# Altium footprint library NEW.PcbLib: 110 footprints (part 4 of 7)
Each footprint in its own frame and in the unit in brackets; x right, y up, seen from the top. Pads: shape width x height; smd on the part's side, far side on the other; paste and mask are expansions set on the pad; w line width, h text height; cw(c..) or ccw(c..) is an arc to the next point about the centre after c.
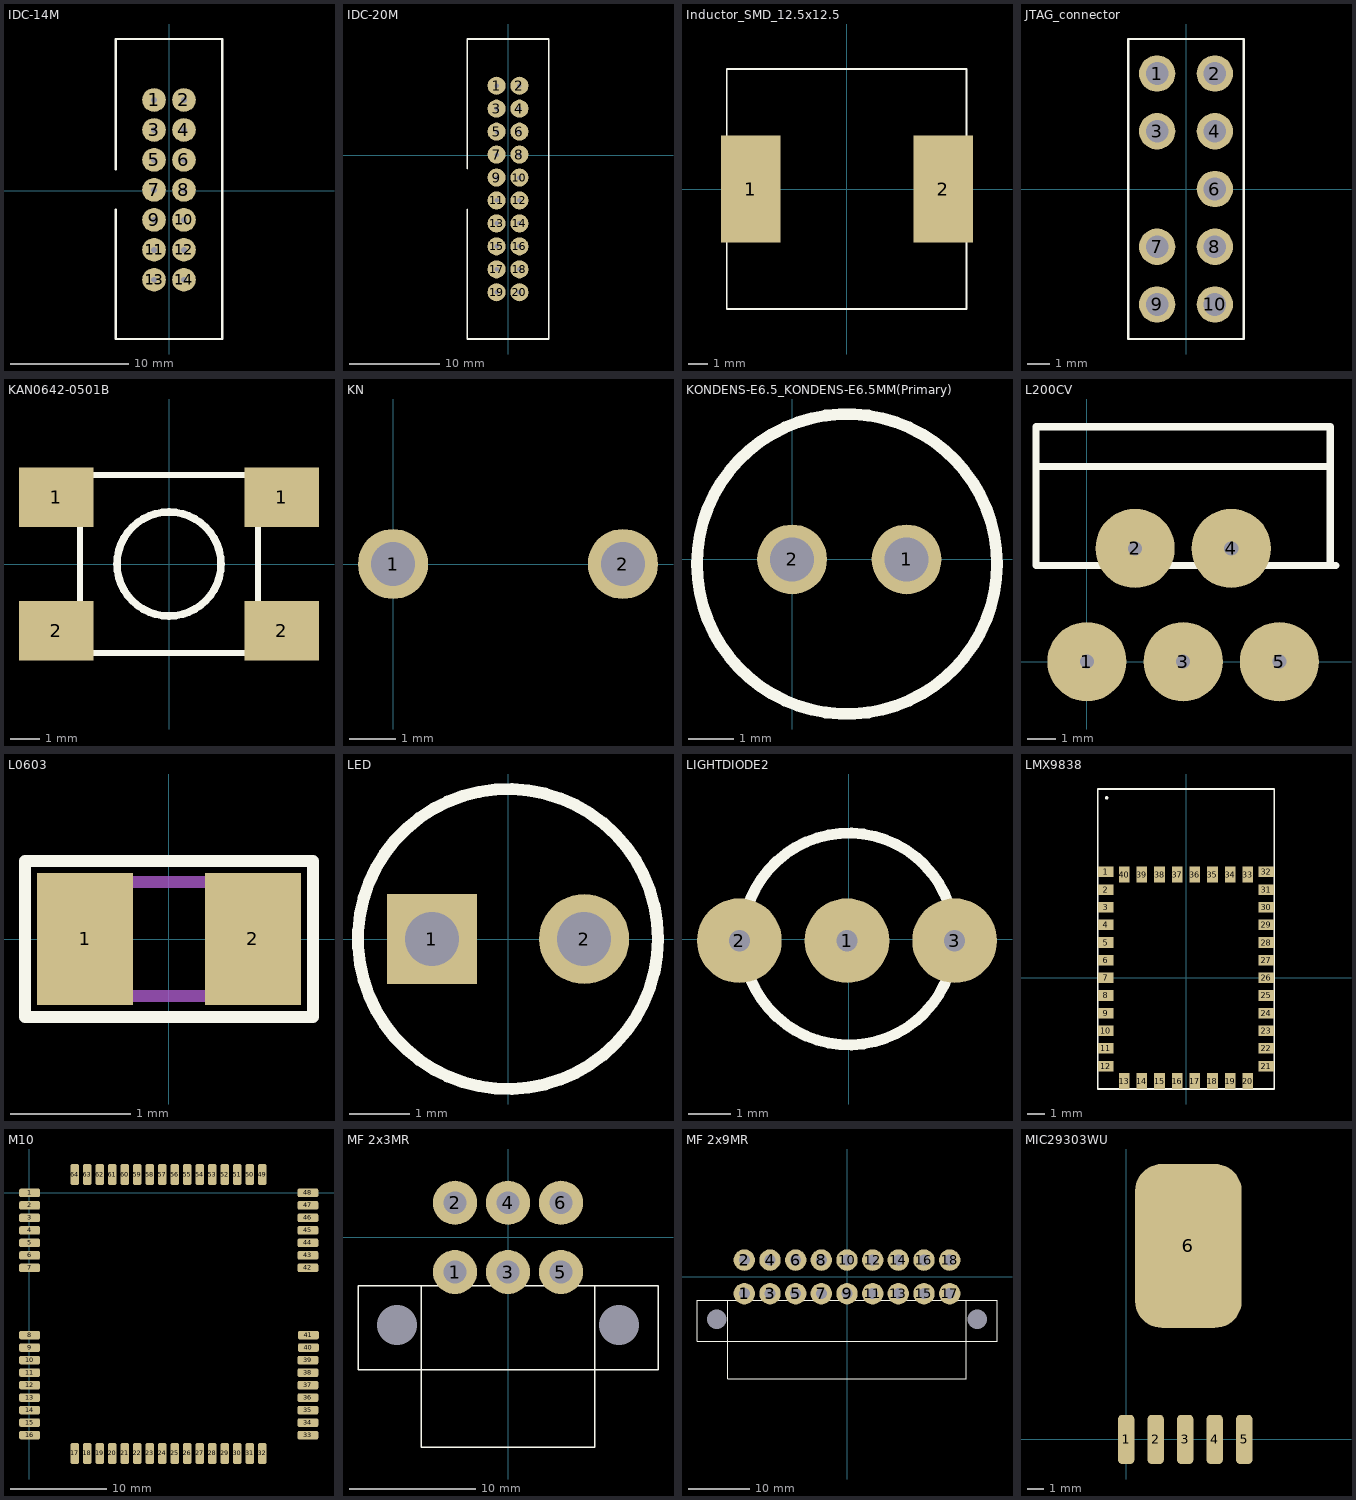
[diagram p3: the footprints below, top view; thin cyan lines are the x and y axes]

## IDC-14M [mm]
height 8
pads (14):
  round 2 hole 0.5 unplated: 1(-1.27,7.68) 2(1.27,7.68) 3(-1.27,5.14) 4(1.27,5.14) 5(-1.27,2.6) 6(1.27,2.6) 7(-1.27,0.06) 8(1.27,0.06) 9(-1.27,-2.48) 10(1.27,-2.48)
  round 2 hole 0.5: 11(-1.27,-5.02) 12(1.27,-5.02) 13(-1.27,-7.56) 14(1.27,-7.56)
Top Overlay:
  lines w0.2: -4.5,-1.6 -4.5,-12.58 4.5,-12.58 4.5,12.85 -4.5,12.85 -4.5,1.8

## IDC-20M [mm]
height 8
pads (20):
  round 2 hole 0.5 unplated: 1(-1.27,7.68) 2(1.27,7.68) 3(-1.27,5.14) 4(1.27,5.14) 5(-1.27,2.6) 6(1.27,2.6) 7(-1.27,0.06) 8(1.27,0.06) 9(-1.27,-2.48) 10(1.27,-2.48)
  round 2 hole 0.5: 11(-1.27,-5.02) 12(1.27,-5.02) 13(-1.27,-7.56) 14(1.27,-7.56) 15(-1.27,-10.1) 16(1.27,-10.1) 17(-1.27,-12.64) 18(1.27,-12.64) 19(-1.27,-15.18) 20(1.27,-15.18)
Top Overlay:
  lines w0.2: -4.5,-6.02 -4.5,-20.35 4.475,-20.35 4.5,-20.325 4.5,12.85 -4.5,12.85 -4.5,-1.48

## Inductor_SMD_12.5x12.5 [mm]
height 8.5
pads (2):
  rect 3.1x5.6 smd: 1(-5,0) 2(5.05,0)
Top Overlay:
  lines w0.1: -6.25,-6.25 6.25,-6.25 6.25,6.25 -6.25,6.25 -6.25,-6.25

## JTAG_connector [mm]
pads (9):
  round 1.6 hole 1 unplated: 1(-1.27,5.08) 2(1.27,5.08) 3(-1.27,2.54) 4(1.27,2.54) 6(1.27,0) 7(-1.27,-2.54) 8(1.27,-2.54) 9(-1.27,-5.08) 10(1.27,-5.08)
Top Overlay:
  lines w0.1: -2.54,-6.6 2.54,-6.6 2.54,6.6 -2.54,6.6 -2.54,-6.6

## KAN0642-0501B [mm]
height 5
pads (4):
  rect 2.5x2 smd: 1(-3.8,2.25) 1(3.8,2.25) 2(-3.8,-2.25) 2(3.8,-2.25)
Top Overlay:
  circle w0.254: c0,0 r1.75
  lines w0.2: -3,-3 3,-3 3,3 -3,3 -3,-3

## KN [mil]
pads (2):
  round 60 hole 38: 1(0,0) 2(196.85,0)

## KONDENS-E6.5_KONDENS-E6.5MM(Primary) [mil]
pads (2):
  round 60 hole 38: 1(98.43,0) 2(0,0)
Top Overlay:
  circle w10: c47.24,-3.94 r128.96

## L200CV [mm]
pads (5):
  round 2.8 hole 0.5: 1(0,0) 2(1.7,4) 3(3.4,0) 4(5.1,4) 5(6.8,0)
Top Overlay:
  lines w0.254: -1.8,6.9 8.6,6.9 ; 8.6,3.4 8.6,8.3 -1.8,8.3 -1.8,3.4 8.8,3.4

## L0603 [mm] "SMD_inductor 0603"
height 1.02
pads (2):
  rect 0.8x1.1 smd: 1(-0.7,0) 2(0.7,0)
Top Overlay:
  lines w0.1: 1.2,0.625 1.2,-0.65 -1.2,-0.65 -1.2,0.65 1.2,0.65
Mechanical 13:
  lines w0.1: -0.875,-0.475 0.875,-0.475 0.875,0.475 -0.875,0.475 -0.875,-0.475
3D body: height 1.3, standoff 0, extent -0.875,-0.475 0.875,0.475

## LED [mm] "LED d 5mm"
height 8
pads (2):
  rect 1.5x1.5 hole 0.9: 1(-1.27,0)
  round 1.5 hole 0.9: 2(1.27,0)
Top Overlay:
  circle w0.2: c0,0 r2.5

## LIGHTDIODE2 [mm]
pads (3):
  round 2 hole 0.5: 1(-0.04,-0.04) 2(-2.58,-0.04) 3(2.5,-0.04)
Top Overlay:
  circle w0.254: c0,0 r2.5

## LMX9838 [mm] "Bluetooth_OEM_module"
height 2
pads (41):
  rect 0.9x0.6 smd: 1(-4.55,6) 2(-4.55,5) 3(-4.55,4) 4(-4.55,3) 5(-4.55,2) 6(-4.55,1) 7(-4.55,0) 8(-4.55,-1) 9(-4.55,-2) 10(-4.55,-3) 11(-4.55,-4) 12(-4.55,-5) 21(4.55,-5) 22(4.55,-4) 23(4.55,-3) 24(4.55,-2) 25(4.55,-1) 26(4.55,0) 27(4.55,1) 28(4.55,2) 29(4.55,3) 30(4.55,4) 31(4.55,5) 32(4.55,6)
  round 0.2 on Top Overlay: 1(-4.5,10.2)
  rect 0.6x0.9 smd: 13(-3.5,-5.85) 14(-2.5,-5.85) 15(-1.5,-5.85) 16(-0.5,-5.85) 17(0.5,-5.85) 18(1.5,-5.85) 19(2.5,-5.85) 20(3.5,-5.85) 33(3.5,5.85) 34(2.5,5.85) 35(1.5,5.85) 36(0.5,5.85) 37(-0.5,5.85) 38(-1.5,5.85) 39(-2.5,5.85) 40(-3.5,5.85)
Top Overlay:
  lines w0.1: -5,-6.3 5,-6.3 5,10.7 -5,10.7 -5,-6.3

## M10 [mm]
pads (64):
  rrect50% 2.2x0.9 smd: 1(0.05,0) 2(0.05,-1.3) 3(0.05,-2.6) 4(0.05,-3.9) 5(0.05,-5.2) 6(0.05,-6.5) 7(0.05,-7.8) 8(0.05,-14.8) 9(0.05,-16.1) 10(0.05,-17.4) 11(0.05,-18.7) 12(0.05,-20) 13(0.05,-21.3) 14(0.05,-22.6) 15(0.05,-23.9) 16(0.05,-25.2) 33(29,-25.2) 34(29,-23.9) 35(29,-22.6) 36(29,-21.3) 37(29,-20) 38(29,-18.7) 39(29,-17.4) 40(29.05,-16.1) 41(29.05,-14.8) 42(29,-7.8) 43(29,-6.5) 44(29,-5.2) 45(29,-3.9) 46(29,-2.6) 47(29,-1.3) 48(29,0)
  rrect50% 0.9x2.2 smd: 17(4.75,-27.1) 18(6.05,-27.1) 19(7.35,-27.1) 20(8.65,-27.1) 21(9.95,-27.1) 22(11.25,-27.1) 23(12.55,-27.1) 24(13.85,-27.1) 25(15.15,-27.1) 26(16.45,-27.1) 27(17.75,-27.1) 28(19.05,-27.1) 29(20.35,-27.1) 30(21.65,-27.1) 31(22.95,-27.1) 32(24.25,-27.1) 49(24.25,1.9) 50(22.95,1.9) 51(21.65,1.9) 52(20.35,1.9) 53(19.05,1.9) 54(17.75,1.9) 55(16.45,1.9) 56(15.15,1.9) 57(13.85,1.9) 58(12.55,1.9) 59(11.25,1.9) 60(9.95,1.9) 61(8.65,1.9) 62(7.35,1.9) 63(6.05,1.9) 64(4.75,1.9)

## MF 2x3MR [mm]
height 10
pads (8):
  round 0 hole 3.2 unplated: 0(-8.8,-6.95) 0(8.8,-6.95)
  round 3.5 hole 1.8: 1(-4.2,-2.75) 2(-4.2,2.75) 3(0,-2.75) 4(0,2.75) 5(4.2,-2.75) 6(4.2,2.75)
Top Overlay:
  lines w0.1: -6.9,-3.85 -6.9,-16.65 6.9,-16.65 6.9,-3.85 ; -11.9,-10.5 11.9,-10.5 11.9,-3.85 -11.9,-3.85 -11.9,-10.5

## MF 2x9MR [mm]
height 10
pads (20):
  round 0 hole 3.2 unplated: 0(-21.3,-6.95) 0(21.3,-6.95)
  round 3.5 hole 1.8: 1(-16.8,-2.75) 2(-16.8,2.75) 3(-12.6,-2.75) 4(-12.6,2.75) 5(-8.4,-2.75) 6(-8.4,2.75) 7(-4.2,-2.75) 8(-4.2,2.75) 9(0,-2.75) 10(0,2.75) 11(4.2,-2.75) 12(4.2,2.75) 13(8.4,-2.75) 14(8.4,2.75) 15(12.6,-2.75) 16(12.6,2.75) 17(16.8,-2.75) 18(16.8,2.75)
Top Overlay:
  lines w0.1: -19.55,-3.85 -19.55,-16.65 19.55,-16.65 19.55,-3.85 ; -24.55,-10.5 24.55,-10.5 24.55,-3.85 -24.55,-3.85 -24.55,-10.5

## MIC29303WU [mm]
pads (6):
  rrect50% 1x3 smd: 1(0,0) 2(1.8,0) 3(3.6,0) 4(5.4,0) 5(7.2,0)
  rrect50% 6.5x10 smd: 6(3.8,11.8)